# Altium footprint library TE_282837-9.PcbLib: 1 footprints
Each footprint in its own frame and in the unit in brackets; x right, y up, seen from the top. Pads: shape width x height; smd on the part's side, far side on the other; paste and mask are expansions set on the pad; w line width, h text height; cw(c..) or ccw(c..) is an arc to the next point about the centre after c.
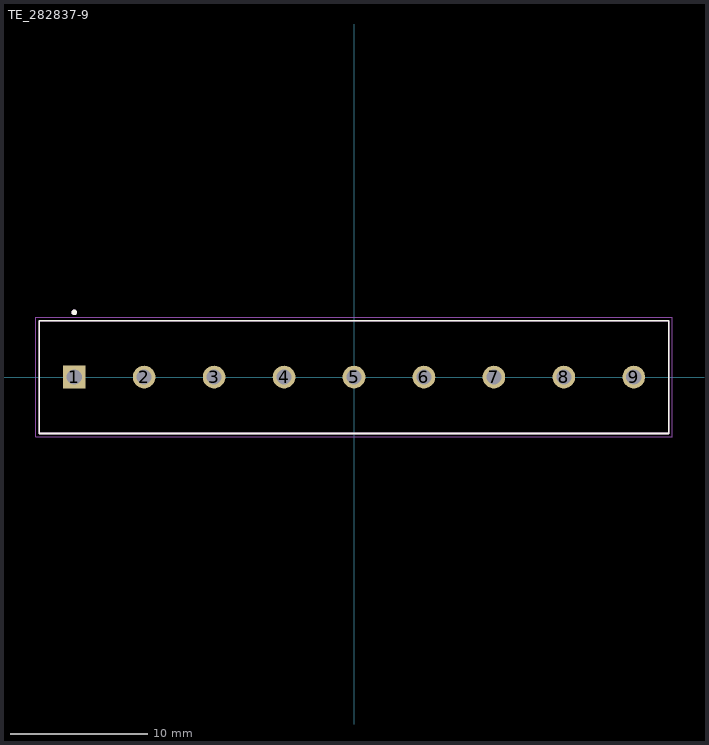
[diagram p0: the footprint, top view; thin cyan lines are the x and y axes]

## TE_282837-9 [mm]
pads (9):
  rect 1.65x1.65 hole 1.1: 1(-20.32,0)
  round 1.65 hole 1.1: 2(-15.24,0) 3(-10.16,0) 4(-5.08,0) 5(0,0) 6(5.08,0) 7(10.16,0) 8(15.24,0) 9(20.32,0)
Top Overlay:
  circle w0.2: c-20.32,4.7 r0.1
  lines w0.127: -22.86,-4.1 22.86,-4.1 22.86,4.1 -22.86,4.1 -22.86,-4.1
Mechanical 13:
  circle w0.2: c-20.32,4.7 r0.1
  lines w0.127: -22.86,-4.1 22.86,-4.1 22.86,4.1 -22.86,4.1 -22.86,-4.1
Mechanical 15:
  lines w0.05: -23.11,-4.35 23.11,-4.35 23.11,4.35 -23.11,4.35 -23.11,-4.35